# Altium footprint library Connectors_SMD.PcbLib: 40 footprints (part 3 of 3)
Each footprint in its own frame and in the unit in brackets; x right, y up, seen from the top. Pads: shape width x height; smd on the part's side, far side on the other; paste and mask are expansions set on the pad; w line width, h text height; cw(c..) or ccw(c..) is an arc to the next point about the centre after c.
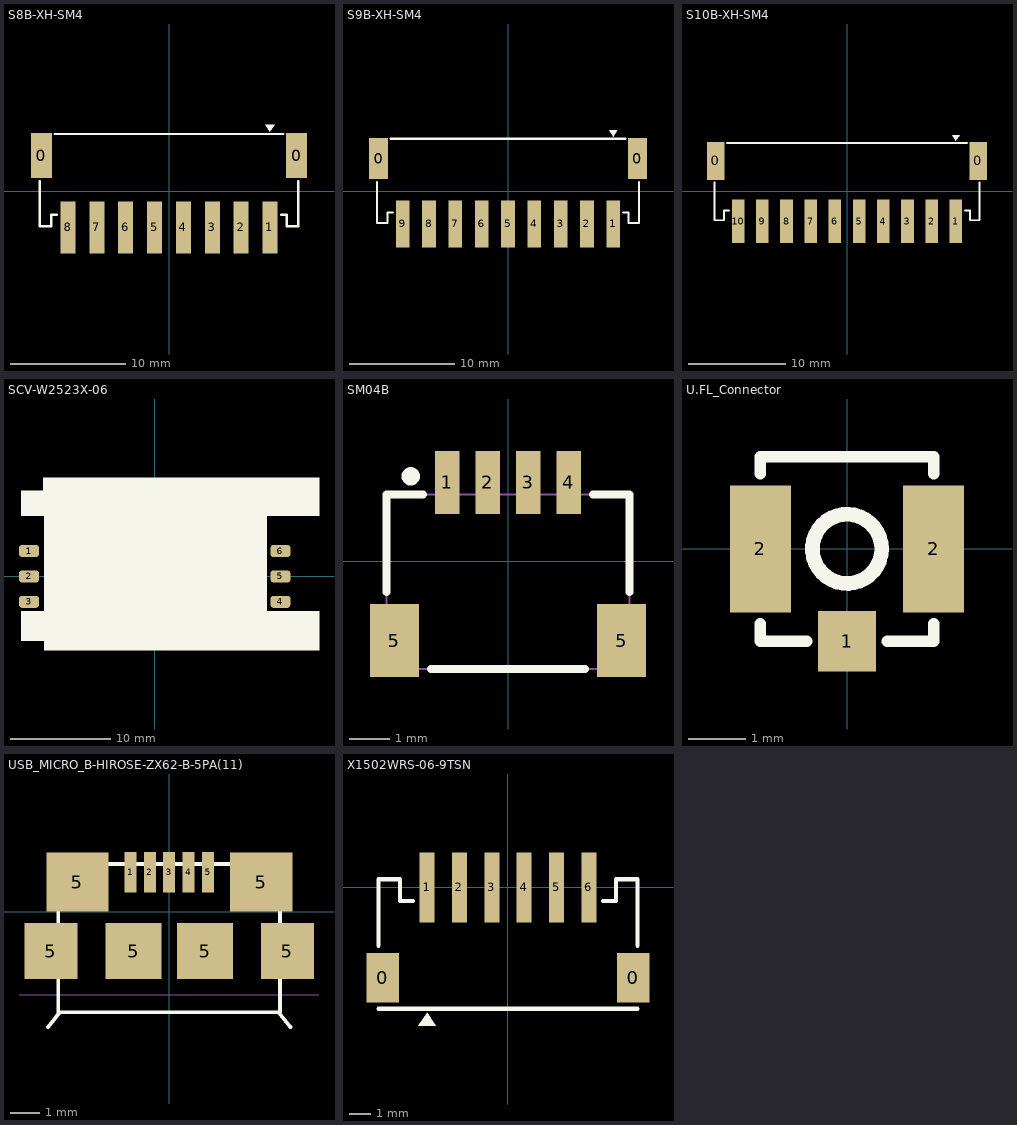
[diagram p2: the footprints below, top view; thin cyan lines are the x and y axes]

## S8B-XH-SM4 [mm] "XH Header Male 8-Pin SMD, P=2.5mm, Horizontal"
height 6.2
pads (10):
  rect 1.8x3.9 smd: 0(-11.05,3.106) 0(11.05,3.106)
  rect 1.3x4.5 smd: 1(8.75,-3.106) 2(6.25,-3.106) 3(3.75,-3.106) 4(1.25,-3.106) 5(-1.25,-3.106) 6(-3.75,-3.106) 7(-6.25,-3.106) 8(-8.75,-3.106)
Top Overlay:
  region: 8.75,5.181 9.15,5.781 8.35,5.781
  lines w0.2: -11.2,0.881 -11.2,-3.019 -10.2,-3.019 -10.2,-2.019 -9.7,-2.019 ; -9.9,4.981 9.9,4.981 ; 9.7,-2.019 10.2,-2.019 10.2,-3.019 11.2,-3.019 11.2,0.881
3D body "JST - XH - SMD (R) - 8Pin - 2.54mm.stp": height 5.92, standoff 0, extent -12.687,-4.925 12.687,4.981

## S9B-XH-SM4 [mm] "XH Header Male 9-Pin SMD, P=2.5mm, Horizontal"
height 6.2
pads (11):
  rect 1.8x3.9 smd: 0(-12.3,3.106) 0(12.3,3.106)
  rect 1.3x4.5 smd: 1(10,-3.106) 2(7.5,-3.106) 3(5,-3.106) 4(2.5,-3.106) 5(0,-3.106) 6(-2.5,-3.106) 7(-5,-3.106) 8(-7.5,-3.106) 9(-10,-3.106)
Top Overlay:
  region: 10,5.181 10.4,5.781 9.6,5.781
  lines w0.2: -12.45,0.881 -12.45,-3.019 -11.45,-3.019 -11.45,-2.019 -10.95,-2.019 ; -11.15,4.981 11.15,4.981 ; 10.95,-2.019 11.45,-2.019 11.45,-3.019 12.45,-3.019 12.45,0.881
3D body "JST - XH - SMD (R) - 9Pin - 2.54mm.stp": height 5.92, standoff 0, extent -13.957,-4.925 13.957,4.981

## S10B-XH-SM4 [mm] "XH Header Male 10-Pin SMD, P=2.5mm, Horizontal"
height 6.2
pads (12):
  rect 1.8x3.9 smd: 0(-13.55,3.106) 0(13.55,3.106)
  rect 1.3x4.5 smd: 1(11.25,-3.106) 2(8.75,-3.106) 3(6.25,-3.106) 4(3.75,-3.106) 5(1.25,-3.106) 6(-1.25,-3.106) 7(-3.75,-3.106) 8(-6.25,-3.106) 9(-8.75,-3.106) 10(-11.25,-3.106)
Top Overlay:
  region: 11.25,5.181 11.65,5.781 10.85,5.781
  lines w0.2: -13.7,0.881 -13.7,-3.019 -12.7,-3.019 -12.7,-2.019 -12.2,-2.019 ; -12.4,4.981 12.4,4.981 ; 12.2,-2.019 12.7,-2.019 12.7,-3.019 13.7,-3.019 13.7,0.881
3D body "JST - XH - SMD (R) - 10Pin - 2.54mm.stp": height 5.92, standoff 0, extent -15.227,-4.925 15.227,4.981

## SCV-W2523X-06 [mm] "SIM CARD 06 PIN SOCKET, GRID 0.254 (VANCHIK)"
height 2.3
pads (6):
  rrect50% 2x1.2 smd: 1(-12.573,2.54) 2(-12.573,0) 3(-12.573,-2.54) 4(12.573,-2.54) 5(12.573,0) 6(12.573,2.54)
Top Overlay:
  region: -13.323,-3.46 -11.073,-3.46 -11.073,6.04 -13.323,6.04 -13.323,8.54 -11.173,8.54 -11.173,9.84 16.427,9.84 16.427,6.04 11.177,6.04 11.177,-3.46 16.427,-3.46 16.427,-7.36 -11.073,-7.36 -11.073,-6.46 -13.323,-6.46
3D body "SIM5060-6-0-26-01-A.STEP": height 2.6, standoff -0.7, extent -13.273,-7.36 16.367,9.84

## SM04B [mm] "Connector JST SM04B Pitch 1.0mm, 2.9x4.25x6.0mm, SMT"
height 2.9
pads (6):
  rect 0.6x1.55 smd: 1(-1.5,1.95) 2(-0.5,1.95) 3(0.5,1.95) 4(1.5,1.95)
  rect 1.2x1.8 smd: 5(-2.8,-1.95) 5(2.8,-1.95)
Top Overlay:
  circle w0.25: c-2.4,2.1 r0.1
  lines w0.2: -3,-0.75 -3,1.65 -2.1,1.65 ; -1.9,-2.65 1.9,-2.65 ; 2.1,1.65 3,1.65 3,-0.75
Mechanical 13:
  lines w0.05: -3,-2.65 -3,1.65 3,1.65 3,-2.65 -3,-2.65
3D body "JST_SM04B-NSHSS-TB.step": height 2.9, standoff 0, extent -3,-2.65 3,2.3

## U.FL_Connector [mm] "СВЧ разъём антенный"
height 2.5
pads (3):
  rect 1x1.05 smd: 1(0,-1.6)
  rect 1.05x2.2 smd: 2(-1.5,0) 2(1.5,0)
Top Overlay:
  circle w0.254: c0,0 r0.6
  lines w0.2: -1.5,-1.3 -1.5,-1.6 -0.7,-1.6 ; -1.5,1.3 -1.5,1.6 1.5,1.6 1.5,1.3 ; 0.7,-1.6 1.5,-1.6 1.5,-1.3
3D body "734120110.STEP": height 1.25, standoff -0.01, extent -1.5,-1.55 1.5,1.55

## USB_MICRO_B-HIROSE-ZX62-B-5PA(11) [mil] "USB_MICRO_B-HIROSE-ZX62-B-5PA(11)"
pads (11):
  rect 16x54 smd: 1(-51.44,52.5) 2(-25.85,52.5) 3(-0.26,52.5) 4(25.74,52.5) 5(51.74,52.5)
  rect 71x75 smd: 5(-157.74,-52.5) 5(157.74,-52.5)
  rect 83x79 smd: 5(-122.31,39.5) 5(122.74,39.5)
  rect 75x75 smd: 5(-47.5,-52.5) 5(47.74,-52.5)
Top Overlay:
  lines w5: -161.68,-153.81 -145.93,-134.12 ; 161.74,-153.81 145.74,-134.12 ; -145.93,-134.12 -147.9,-134.12 -147.9,63.5 147.74,63.5 147.74,-134.12 145.74,-134.12 ; -145.93,-134.12 145.74,-134.12
Mechanical 1:
  lines w0: -200.26,-110.5 199.74,-110.5
Mechanical 11:
  lines w0: -200.26,-110.5 199.74,-110.5
Mechanical 16:
  lines w0: -200.26,-110.5 199.74,-110.5
3D body "10104110.STEP": height 108.98, standoff -10.26, extent -159.28,-163.84 158.78,55.21

## X1502WRS-06-9TSN [mm] "ZH Header Male Pin 0.059\"(1.50mm) 6 SMD,P=1.5mm Wire To Board / Wire To Wire Connector RoHS"
height 3.8
pads (8):
  rect 1.5x2.3 smd: 0(-5.8,-4.175) 0(5.8,-4.175)
  rect 0.7x3.25 smd: 1(-3.75,0) 2(-2.25,0) 3(-0.75,0) 4(0.75,0) 5(2.25,0) 6(3.75,0)
Top Overlay:
  region: -3.75,-5.8 -4.15,-6.4 -3.35,-6.4
  lines w0.2: -6,-5.625 6,-5.625 ; -6,-2.7 -6,0.375 -5,0.375 -5,-0.625 -4.4,-0.625 ; 4.4,-0.625 5,-0.625 5,0.375 6,0.375 6,-2.7
3D body: height 0.5, standoff 0, extent 3.5,-0.625 4,0.875
3D body: height 0.5, standoff 0, extent 2,-0.625 2.5,0.875
3D body: height 0.5, standoff 0, extent 0.5,-0.625 1,0.875
3D body: height 0.5, standoff 0, extent -1,-0.625 -0.5,0.875
3D body: height 0.5, standoff 0, extent -2.5,-0.625 -2,0.875
3D body: height 1.5, standoff 0, extent -6,-0.625 -5,0.375
3D body: height 0.5, standoff 0, extent -4,-0.625 -3.5,0.875
3D body: height 1.5, standoff 0, extent 5,-0.625 6,0.375
3D body: height 3.7, standoff 0, extent -6,-5.625 6,-0.625